# Altium footprint library Potentiometers.PcbLib: 1 footprints
Each footprint in its own frame and in the unit in brackets; x right, y up, seen from the top. Pads: shape width x height; smd on the part's side, far side on the other; paste and mask are expansions set on the pad; w line width, h text height; cw(c..) or ccw(c..) is an arc to the next point about the centre after c.
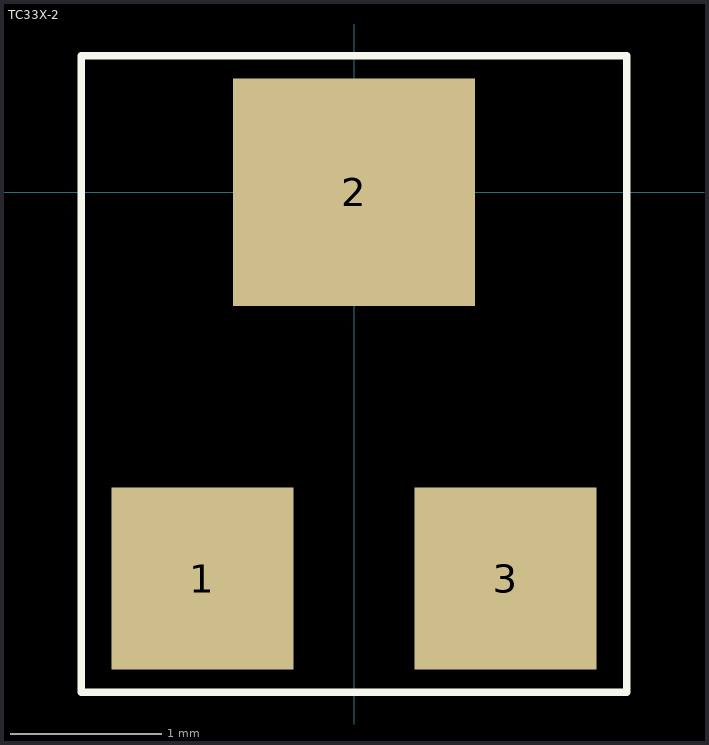
[diagram p0: the footprint, top view; thin cyan lines are the x and y axes]

## TC33X-2 [mm] "TC33X-2 Trimpot"
height 1.2
pads (3):
  rect 1.2x1.2 smd: 1(-1,-2.55) 3(1,-2.55)
  rect 1.6x1.5 smd: 2(0,0)
Top Overlay:
  lines w0.05: -1.8,-3.3 1.8,-3.3 1.8,0.9 -1.8,0.9 -1.8,-3.3
3D body: height 1.13, standoff -0.02, extent -1.8,-3.213 1.8,0.75